# EAGLE library part T821112A1S100CEU (library SamacSys_Parts)
HEADER, VERTICAL, 2.54MM, 12WAY Amphenol T821 Series, 2.54mm Pitch 12 Way 2 Row Shrouded Straight PCB Header, Through Hole, Solder Termination Source: Datasheet <http://uk.rs-online.com/web/p/products/8323610>
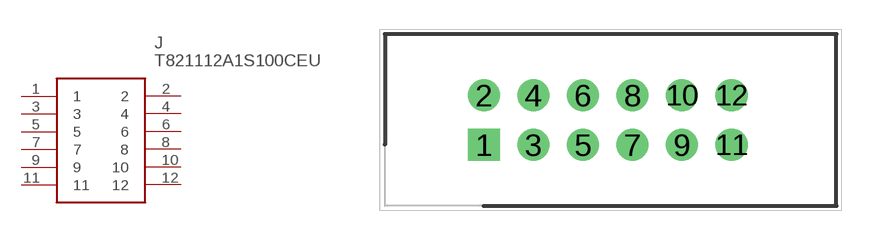
[diagram p4: symbol with the pads of SHDR12W64P254X254_2X6_2286X880; footprint SHDR12W64P254X254_2X6_2286X880]

Designator prefix J

## T821112A1S100CEU (DESCRIPTION: HEADER, VERTICAL, 2.54MM, 12WAY Amphenol T821 Series, 2.54mm Pitch 12 Way 2 Row Shrouded Straight PCB Header, Through Hole, Solder Termination; HEIGHT: 9.15mm; MANUFACTURER_NAME: Amphenol; MANUFACTURER_PART_NUMBER: T821112A1S100CEU; RS_PART_NUMBER: 8323610; RS_PRICE-STOCK: http://uk.rs-online.com/web/p/products/8323610)  [SHDR12W64P254X254_2X6_2286X880]
1  1
2  2
3  3
4  4
5  5
6  6
7  7
8  8
9  9
10  10
11  11
12  12

## Footprint SHDR12W64P254X254_2X6_2286X880 (pad centres in mm)
T821112A1S100CEU
drill 1.1 pad 1.65 square: 1 0,0
drill 1.1 pad 1.65: 2 0,2.54; 3 2.54,0; 4 2.54,2.54; 5 5.08,0; 6 5.08,2.54; 7 7.62,0; 8 7.62,2.54; 9 10.16,0; 10 10.16,2.54; 11 12.7,0; 12 12.7,2.54